# Altium schematic symbol library CAP-SM-0402-NP0-1pF.Schlib: 1 symbol
Pins are listed as number, name and electrical type; pins without a type are passive.

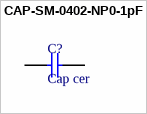
[diagram p0: symbol CAP-SM-0402-NP0-1pF]

## CAP-SM-0402-NP0-1pF
designator C?, comment Cap cer
CAP SM 0402 NP0 1pF ±0.1pF
pins: 1, 2